# EAGLE library part MCP73871 (library James_custom)
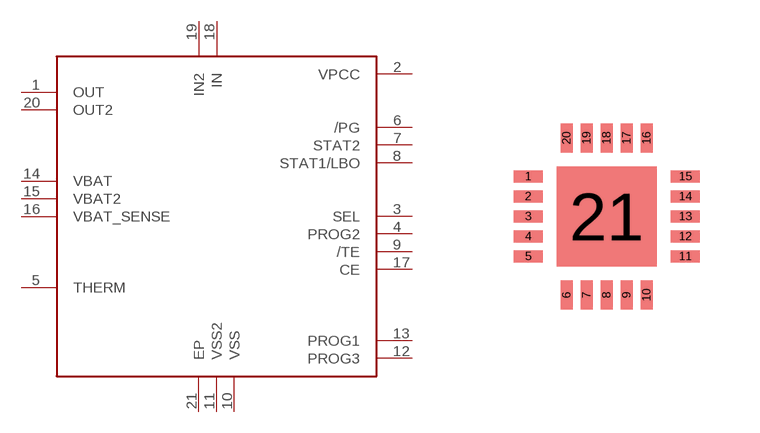
[diagram p14: symbol with the pads of QFN_20; footprint QFN_20]

Designator prefix -

## MCP73871  [QFN_20]
1  OUT
2  VPCC
3  SEL
4  PROG2
5  THERM
6  /PG
7  STAT2
8  STAT1/LBO
9  /TE
10  VSS
11  VSS2
12  PROG3
13  PROG1
14  VBAT
15  VBAT2
16  VBAT_SENSE
17  CE
18  IN
19  IN2
20  OUT2
21  EP

## Footprint QFN_20 (pad centres in mm)
smd 0.73 x 0.3: 1 -1.965,1; 2 -1.965,0.5; 3 -1.965,0; 4 -1.965,-0.5; 5 -1.965,-1; 11 1.965,-1; 12 1.965,-0.5; 13 1.965,0; 14 1.965,0.5; 15 1.965,1
smd 0.3 x 0.73: 6 -1,-1.965; 7 -0.5,-1.965; 8 0,-1.965; 9 0.5,-1.965; 10 1,-1.965; 16 1,1.965; 17 0.5,1.965; 18 0,1.965; 19 -0.5,1.965; 20 -1,1.965
smd 2.5 x 2.5: 21 0,0